# EAGLE library part LSM303AGR (library ICs)
Accelerometer, Magnetometer, Temperature, 6 Axis Sensor I²C, SPI Output
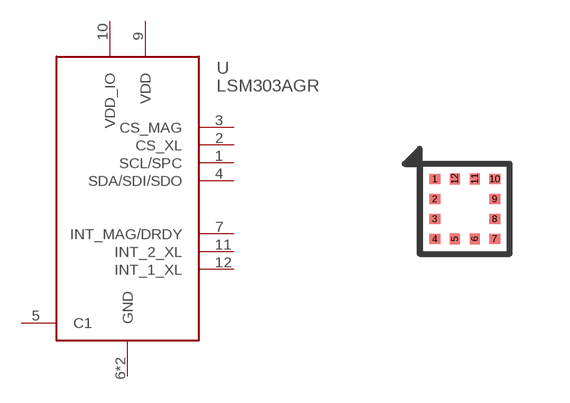
[diagram p236: symbol with the pads of LGA12-LSM303; footprint LGA12-LSM303]

Designator prefix U

## LSM303AGR (DIGIKEY: 497-16527-1-ND; HEIGHT: 1; PRICE_PER: 2.26; VALUE: LSM303)  [LGA12-LSM303]
1  SCL/SPC
2  CS_XL
3  CS_MAG
4  SDA/SDI/SDO
5  C1
6  GND
7  INT_MAG/DRDY
8  GND
9  VDD
10  VDD_IO
11  INT_2_XL
12  INT_1_XL

## Footprint LGA12-LSM303 (pad centres in mm)
smd 0.275 x 0.25: 1 -0.75,0.75; 2 -0.75,0.25; 3 -0.75,-0.25; 4 -0.75,-0.75; 7 0.75,-0.75; 8 0.75,-0.25; 9 0.75,0.25; 10 0.75,0.75
smd 0.25 x 0.275: 5 -0.25,-0.75; 6 0.25,-0.75; 11 0.25,0.75; 12 -0.25,0.75